# EAGLE library part MCP4728 (library Microchip)
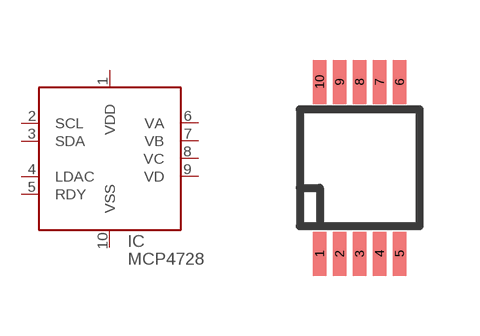
[diagram p26: symbol with the pads of MSOP10-UN; footprint MSOP10-UN]

Designator prefix IC

## MCP4728-UN  [MSOP10-UN]
1  VDD
2  SCL
3  SDA
4  LDAC
5  RDY
6  VA
7  VB
8  VC
9  VD
10  VSS

## Footprint MSOP10-UN (pad centres in mm)
10-Lead Plastic Micro Small Outline Package (MSOP), Microchip package UN
smd 0.33 x 1.1: 1 -1,-2.15; 2 -0.5,-2.15; 3 0,-2.15; 4 0.5,-2.15; 5 1,-2.15; 6 1,2.15; 7 0.5,2.15; 8 0,2.15; 9 -0.5,2.15; 10 -1,2.15